# EAGLE library part MCP25625 (library microchip)
CAN Controller with Integrated Transceiver
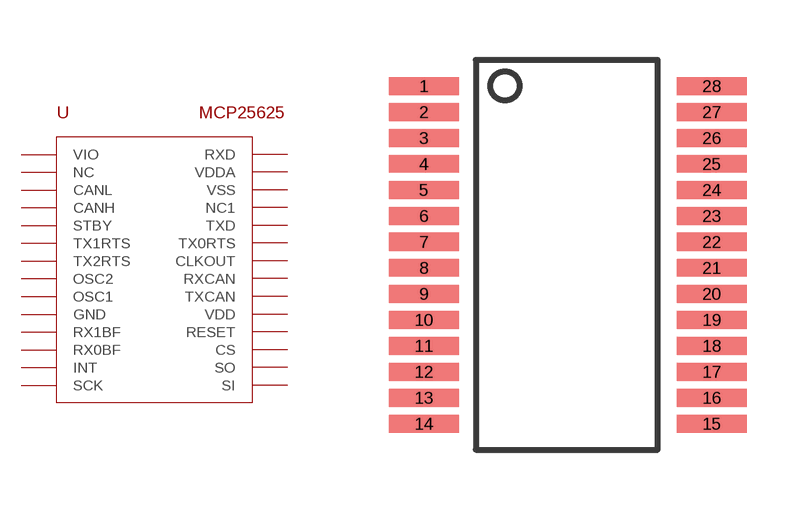
[diagram p2: symbol with the pads of MCP25625; footprint MCP25625]

Designator prefix U

## MCP25625  [MCP25625]
1  VIO
2  NC
3  CANL
4  CANH
5  STBY
6  TX1RTS
7  TX2RTS
8  OSC2
9  OSC1
10  GND
11  RX1BF
12  RX0BF
13  INT
14  SCK
15  SI
16  SO
17  CS
18  RESET
19  VDD
20  TXCAN
21  RXCAN
22  CLKOUT
23  TX0RTS
24  TXD
25  NC1
26  VSS
27  VDDA
28  RXD

## Footprint MCP25625 (pad centres in mm)
smd 1.75 x 0.45: 1 0,0; 2 0,-0.65; 3 0,-1.3; 4 0,-1.95; 5 0,-2.6; 6 0,-3.25; 7 0,-3.9; 8 0,-4.55; 9 0,-5.2; 10 0,-5.85; 11 0,-6.5; 12 0,-7.15; 13 0,-7.8; 14 0,-8.45; 15 7.2,-8.45; 16 7.2,-7.8; 17 7.2,-7.15; 18 7.2,-6.5; 19 7.2,-5.85; 20 7.2,-5.2; 21 7.2,-4.55; 22 7.2,-3.9; 23 7.2,-3.25; 24 7.2,-2.6; 25 7.2,-1.95; 26 7.2,-1.3; 27 7.2,-0.65; 28 7.2,0